# Altium footprint library Capacitors.PcbLib: 2 footprints
Each footprint in its own frame and in the unit in brackets; x right, y up, seen from the top. Pads: shape width x height; smd on the part's side, far side on the other; paste and mask are expansions set on the pad; w line width, h text height; cw(c..) or ccw(c..) is an arc to the next point about the centre after c.
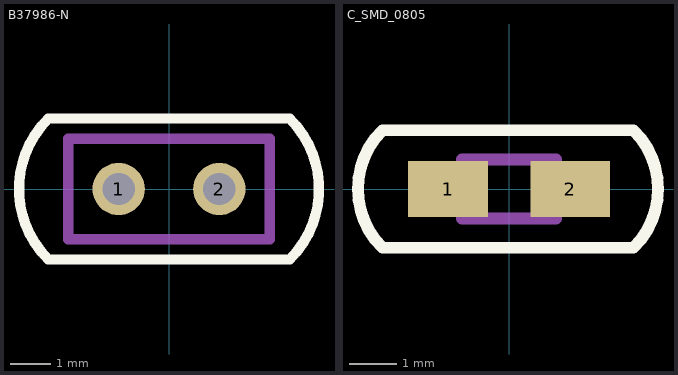
[diagram p0: the footprints below, top view; thin cyan lines are the x and y axes]

## B37986-N [mm]
pads (2):
  round 1.3 hole 0.8 unplated: 1(-1.25,0) 2(1.25,0)
Top Overlay:
  lines w0.254: -3,-1.75 cw(c-1.25,0) -3,1.75 3,1.75 cw(c1.25,0) 3,-1.75 -3,-1.75
Mechanical 1:
  lines w0.254: -2.5,-1.25 -2.5,1.25 2.5,1.25 2.5,-1.25 -2.5,-1.25

## C_SMD_0805 [mm]
pads (2):
  rect 1.7x1.2 smd: 1(-1.3,0) 2(1.3,0)
Top Overlay:
  lines w0.254: -2.7,-1.25 cw(c-1.45,0) -2.7,1.25 2.65,1.25 cw(c1.4,0) 2.65,-1.25 -2.7,-1.25
Mechanical 1:
  lines w0.254: -1,-0.625 -1,0.625 1,0.625 1,-0.625 -1,-0.625